# EAGLE library part MTA07-156 (library con-amp)
AMP connector
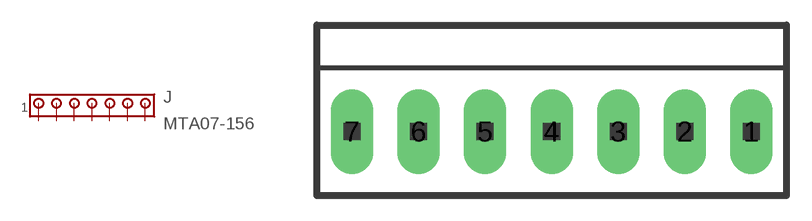
[diagram p112: symbol with the pads of 1X7MTA; footprint 1X7MTA]

Designator prefix J

## MTA07-156  [1X7MTA]
1  1  pas
2  2  pas
3  3  pas
4  4  pas
5  5  pas
6  6  pas
7  7  pas

## Footprint 1X7MTA (pad centres in mm)
AMP MTA connector
drill 1.676 long: 1 11.887,0; 2 7.925,0; 3 3.962,0; 4 0,0; 5 -3.962,0; 6 -7.925,0; 7 -11.887,0